# Altium footprint library PcbLib1.PcbLib: 1 footprints
Each footprint in its own frame and in the unit in brackets; x right, y up, seen from the top. Pads: shape width x height; smd on the part's side, far side on the other; paste and mask are expansions set on the pad; w line width, h text height; cw(c..) or ccw(c..) is an arc to the next point about the centre after c.
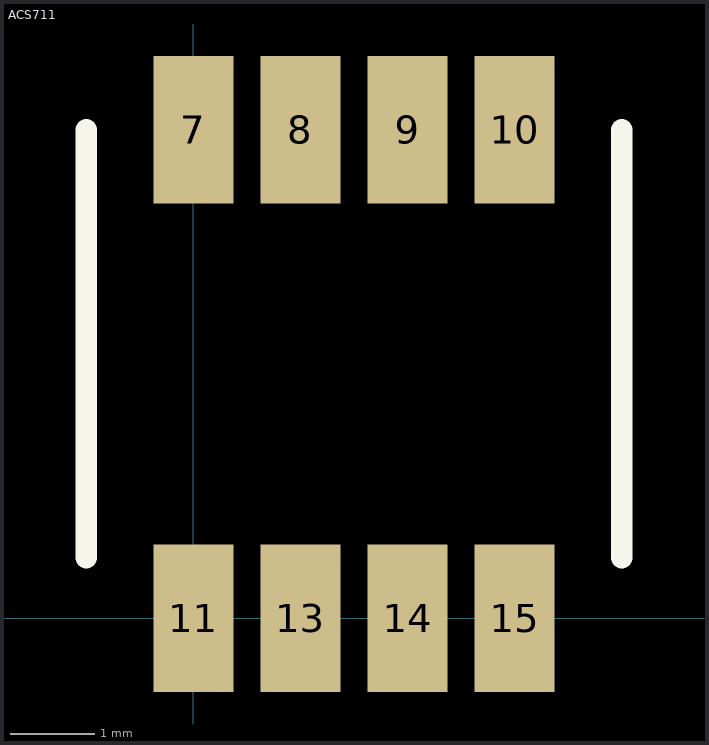
[diagram p0: the footprint, top view; thin cyan lines are the x and y axes]

## ACS711 [mm]
pads (8):
  rect 0.95x1.75 smd: 7(0,5.8) 8(1.27,5.8) 9(2.54,5.8) 10(3.81,5.8) 11(0,0) 13(1.27,0) 14(2.54,0) 15(3.81,0)
Top Overlay:
  lines w0.254: -1.27,0.72 -1.27,5.8 ; 5.08,0.72 5.08,5.8